# Altium footprint library IR21 Family.PcbLib: 2 footprints
Each footprint in its own frame and in the unit in brackets; x right, y up, seen from the top. Pads: shape width x height; smd on the part's side, far side on the other; paste and mask are expansions set on the pad; w line width, h text height; cw(c..) or ccw(c..) is an arc to the next point about the centre after c.
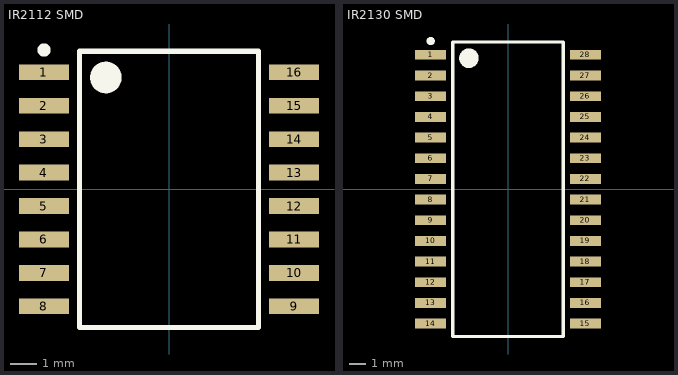
[diagram p0: the footprints below, top view; thin cyan lines are the x and y axes]

## IR2112 SMD [mm] "Half-Bridge Gate Driver IC Non-Inverting  600V/200mA 16-SOIC"
height 2.65
pads (16):
  rect 1.9x0.6 smd: 1(-4.75,4.445) 2(-4.75,3.175) 3(-4.75,1.905) 4(-4.75,0.635) 5(-4.75,-0.635) 6(-4.75,-1.905) 7(-4.75,-3.175) 8(-4.75,-4.445) 9(4.75,-4.445) 10(4.75,-3.175) 11(4.75,-1.905) 12(4.75,-0.635) 13(4.75,0.635) 14(4.75,1.905) 15(4.75,3.175) 16(4.75,4.445)
Top Overlay:
  circle w0.6: c-2.4,4.25 r0.3
  circle w0.25: c-4.75,5.295 r0.125
  lines w0.2: -3.4,-5.25 3.4,-5.25 3.4,5.25 -3.4,5.25 -3.4,-5.25
3D body "SOIC 16 Wide.step": height 1.7, standoff 0, extent -5.3,-4.956 5.343,4.95

## IR2130 SMD [mm] "3-Phase Half-Bridge Gate Driver IC Inverting 28-SOIC 600V/200mA"
height 2.65
pads (28):
  rect 1.9x0.6 smd: 1(-4.75,8.255) 2(-4.75,6.985) 3(-4.75,5.715) 4(-4.75,4.445) 5(-4.75,3.175) 6(-4.75,1.905) 7(-4.75,0.635) 8(-4.75,-0.635) 9(-4.75,-1.905) 10(-4.75,-3.175) 11(-4.75,-4.445) 12(-4.75,-5.715) 13(-4.75,-6.985) 14(-4.75,-8.255) 15(4.75,-8.255) 16(4.75,-6.985) 17(4.75,-5.715) 18(4.75,-4.445) 19(4.75,-3.175) 20(4.75,-1.905) 21(4.75,-0.635) 22(4.75,0.635) 23(4.75,1.905) 24(4.75,3.175) 25(4.75,4.445) 26(4.75,5.715) 27(4.75,6.985) 28(4.75,8.255)
Top Overlay:
  circle w0.25: c-4.75,9.105 r0.125
  circle w0.6: c-2.4,8.05 r0.3
  lines w0.2: -3.4,-9.05 -3.4,9.05 3.4,9.05 3.4,-9.05 -3.4,-9.05
3D body "SOIC 28 Wide.step": height 1.7, standoff 0, extent -5.321,-8.763 5.321,8.763